# EAGLE library part OPA690 (library QuantumOptics)
OPA690, T.I., fast opamp, Vslew=1800V/uS, supply 5-12V, GBW=500MHz.
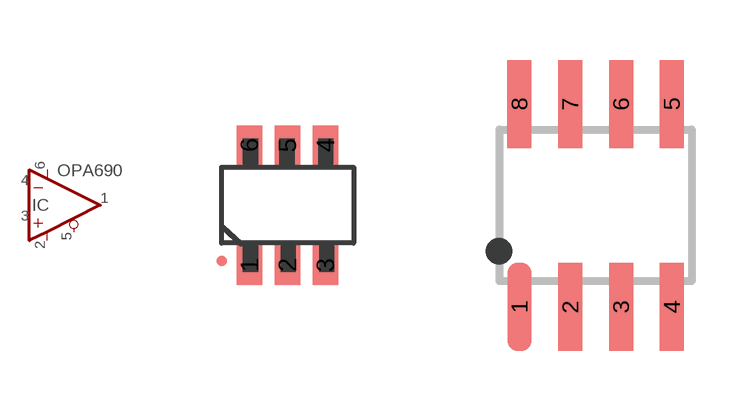
[diagram p30: symbol with the pads of SOT23-6; footprints SOT23-6, SOIC-8]

Designator prefix IC

## OPA690DBV  [SOT23-6]
1  OUT  out
2  V-  in
3  +IN  in
4  -IN  in
5  ~DIS  pas
6  V+  in

## OPA690D  [SOIC-8]
2  -IN  in
3  +IN  in
4  V-  in
6  OUT  out
7  V+  in
8  ~DIS  pas

## Footprint SOT23-6 (pad centres in mm)
SOT-23 6-pin, on wonderful 0.95mm (~0.037") pad-pad spacing.
smd 0.635 x 0.991: 1 -0.95,-0.099; 2 0,-0.099; 3 0.95,-0.099; 4 0.95,2.901; 5 0,2.901; 6 -0.95,2.901

## Footprint SOIC-8 (pad centres in mm)
SOIC-8 (a.k.a. SO-8), pads on 0.050" x 0.200" c-c spacing.
smd 0.6 x 2.2: 1 -1.27,-2.54; 2 0,-2.54; 3 1.27,-2.54; 4 2.54,-2.54; 5 2.54,2.54; 6 1.27,2.54; 7 0,2.54; 8 -1.27,2.54